# Altium footprint library VX801.PcbLib: 1 footprints
Each footprint in its own frame and in the unit in brackets; x right, y up, seen from the top. Pads: shape width x height; smd on the part's side, far side on the other; paste and mask are expansions set on the pad; w line width, h text height; cw(c..) or ccw(c..) is an arc to the next point about the centre after c.
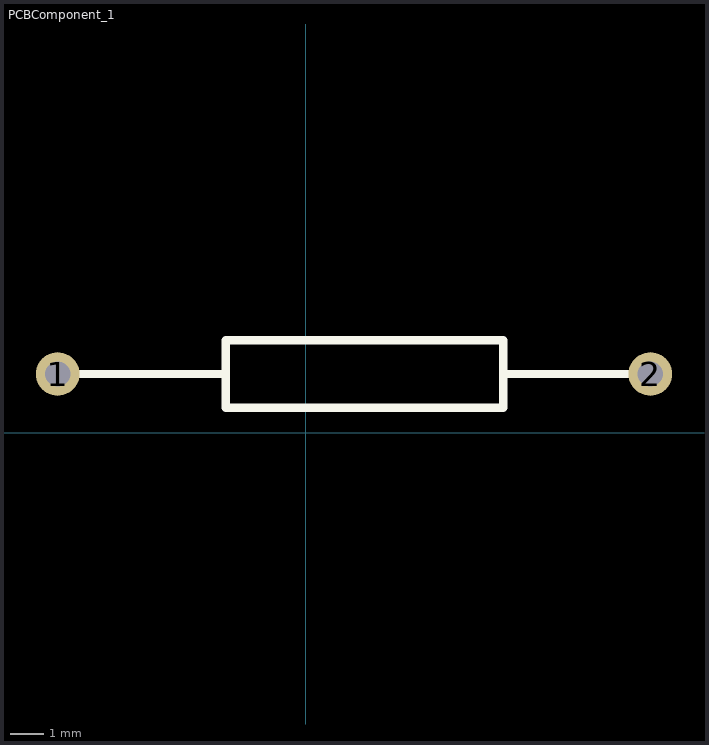
[diagram p0: the footprint, top view; thin cyan lines are the x and y axes]

## PCBComponent_1 [mil]
pads (2):
  round 52 hole 30: 1(-295,70) 2(410,70)
Top Overlay:
  lines w10: -295,70 -95,70 -295,70 ; -95,30 235,30 235,110 -95,110 -95,30 ; 235,70 410,70 235,70